# Altium schematic symbol library Switch_Schlib.SchLib: 17 symbols
Pins are listed as number, name and electrical type; pins without a type are passive.

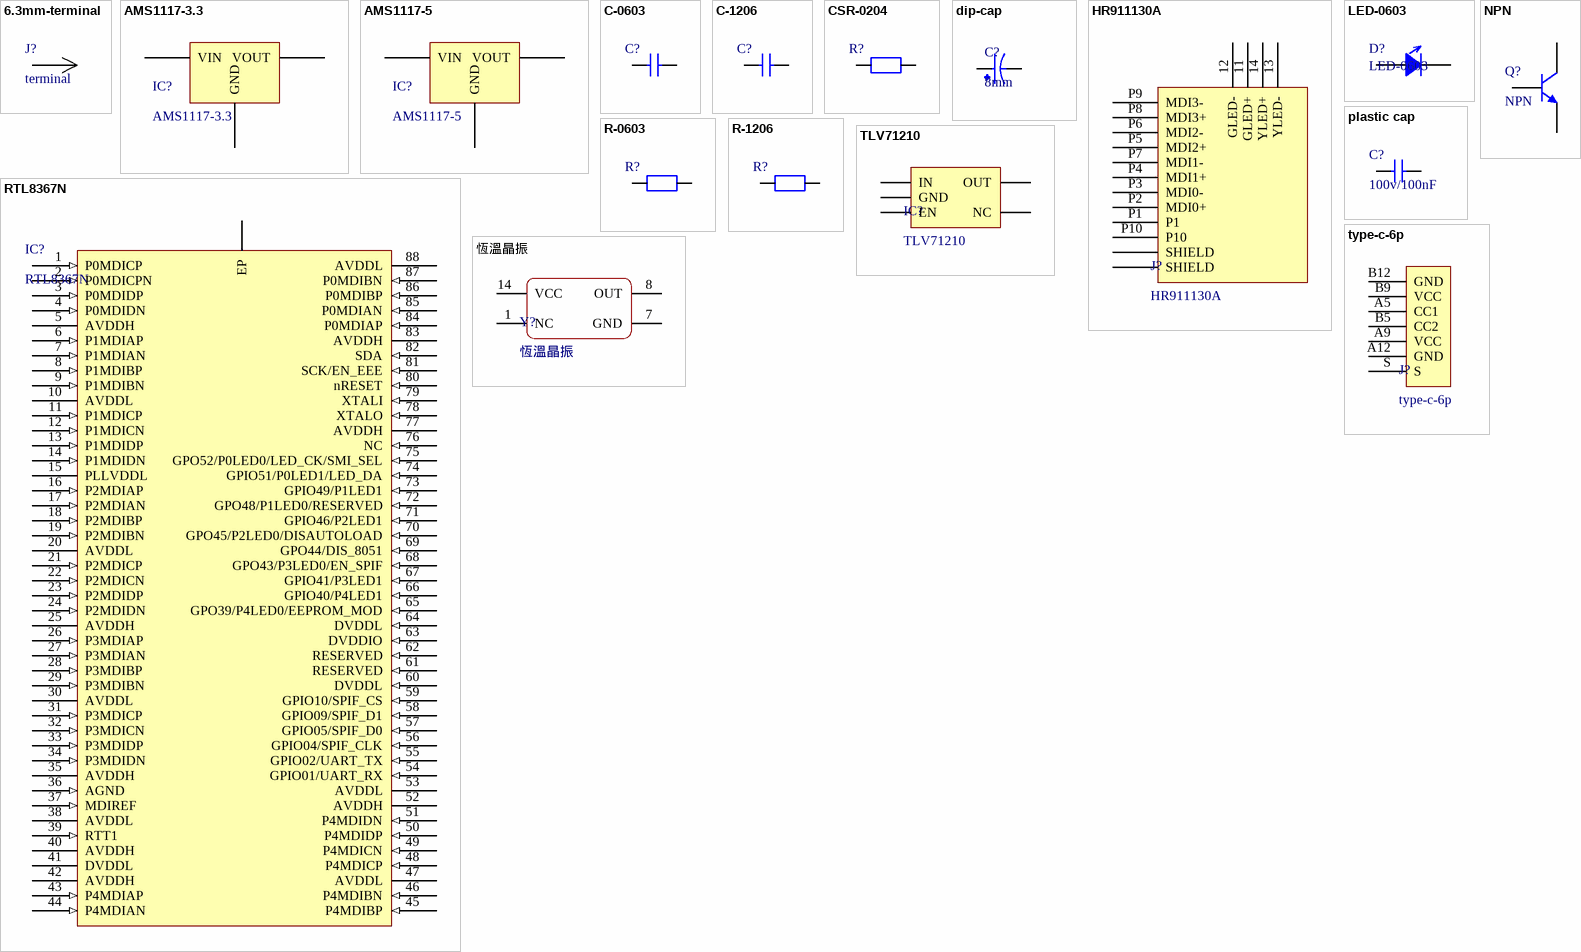
[diagram p0: symbols 6.3mm-terminal to 恆溫晶振]

## 6.3mm-terminal
designator J?, comment terminal
6.3mm-terminal
footprint Terminal-6.3mm
pins: 1

## AMS1117-3.3
designator IC?
footprint SOT-223 (SOT223, 4-Leads, Body 6.50x7.00mm (avg), Pitch 2.30mm, IPC High Density)
pins: 1 GND, 2 VOUT, 3 VIN

## AMS1117-5
designator IC?
footprint SOT-223 (SOT223, 4-Leads, Body 6.50x7.00mm (avg), Pitch 2.30mm, IPC High Density)
pins: 1 GND, 2 VOUT, 3 VIN

## C-0603
designator C?
C-0603
footprint C-0603 (Chip Capacitor, Body 1.6x0.8mm, IPC High Density)
pins: 1, 2

## C-1206
designator C?
C-1206
footprint C-1206 (Chip Capacitor, Body 3.2x1.6mm, IPC High Density)
pins: 1, 2

## CSR-0204
designator R?
CSR-0204
footprint RESMELF3515L (MELF Resistor, 2-Leads, Body 3.50x1.45mm, IPC High Density)
pins: 1, 2

## dip-cap
designator C?, comment 8mm
8mm cap
footprint CAP_dual
pins: 1, 2

## HR911130A
designator J?
footprint RJ45
pins: 11 GLED+, 12 GLED-, 13 YLED-, 14 YLED+, P1, P2 MDI0+, P3 MDI0-, P4 MDI1+, P5 MDI2+, P6 MDI2-, P7 MDI1-, P8 MDI3+, P9 MDI3-, P10, SHIELD0 SHIELD, SHIELD1 SHIELD

## LED-0603
designator D?
footprint LED-0603 (LED, Body 1.6x0.8mm, IPC High Density)
pins: 1, 2

## NPN
designator Q?
footprint SOT23-L
pins: 1 B, 2 E, 3 C

## plastic cap
designator C?, comment 100v/100nF
plastic capacitor
footprint 100v0.1u
pins: 1, 2

## R-0603
designator R?
R-0603
footprint R-0603 (Chip Resistor, Body 1.6x0.8mm, IPC High Density)
pins: 1, 2

## R-1206
designator R?
R-0603
footprint C-1206 (Chip Capacitor, Body 3.2x1.6mm, IPC High Density)
pins: 1, 2

## RTL8367N
designator IC?
RTL8367N-VB-CG
footprint QFN40P1000X1000X90_HS-89M (QFN, 88-Leads, Body 10.00x10.00mm, Pitch 0.40mm, Thermal Pad 6.90x6.90mm, IPC Low Density)
pins: 1 P0MDICP (in), 2 P0MDICPN (in), 3 P0MDIDP (in), 4 P0MDIDN (in), 5 AVDDH (power), 6 P1MDIAP (in), 7 P1MDIAN (in), 8 P1MDIBP (in), 9 P1MDIBN (in), 10 AVDDL (power), 11 P1MDICP (in), 12 P1MDICN (in), 13 P1MDIDP (in), 14 P1MDIDN (in), 15 PLLVDDL (power), 16 P2MDIAP (in), 17 P2MDIAN (in), 18 P2MDIBP (in), 19 P2MDIBN (in), 20 AVDDL (power), 21 P2MDICP (in), 22 P2MDICN (in), 23 P2MDIDP (in), 24 P2MDIDN (in), 25 AVDDH (power), 26 P3MDIAP (in), 27 P3MDIAN (in), 28 P3MDIBP (in), 29 P3MDIBN (in), 30 AVDDL (power), 31 P3MDICP (in), 32 P3MDICN (in), 33 P3MDIDP (in), 34 P3MDIDN (in), 35 AVDDH (power), 36 AGND (in), 37 MDIREF (in), 38 AVDDL (power), 39 RTT1 (in), 40 AVDDH (power), 41 DVDDL (power), 42 AVDDH (power), 43 P4MDIAP (in), 44 P4MDIAN (in), 45 P4MDIBP (in), 46 P4MDIBN (in), 47 AVDDL (power), 48 P4MDICP (in), 49 P4MDICN (in), 50 P4MDIDP (in), 51 P4MDIDN (in), 52 AVDDH (power), 53 AVDDL (power), 54 GPIO01/UART_RX (in), 55 GPIO02/UART_TX (in), 56 GPIO04/SPIF_CLK (in), 57 GPIO05/SPIF_D0 (in), 58 GPIO09/SPIF_D1 (in), 59 GPIO10/SPIF_CS (in), 60 DVDDL (in), 61 RESERVED (in), 62 RESERVED (in), 63 DVDDIO (in), 64 DVDDL (in), 65 GPO39/P4LED0/EEPROM_MOD (in), 66 GPIO40/P4LED1 (in), 67 GPIO41/P3LED1 (in), 68 GPO43/P3LED0/EN_SPIF (in), 69 GPO44/DIS_8051 (in), 70 GPO45/P2LED0/DISAUTOLOAD (in), 71 GPIO46/P2LED1 (in), 72 GPO48/P1LED0/RESERVED (in), 73 GPIO49/P1LED1 (in), 74 GPIO51/P0LED1/LED_DA (in), 75 GPO52/P0LED0/LED_CK/SMI_SEL (in), 76 NC (in), 77 AVDDH (power), 78 XTALO (in), 79 XTALI (in), 80 nRESET (in), 81 SCK/EN_EEE (in), 82 SDA (in), 83 AVDDH (power), 84 P0MDIAP (in), 85 P0MDIAN (in), 86 P0MDIBP (in), 87 P0MDIBN (in), 88 AVDDL (power), 89 EP

## TLV71210
designator IC?
1V LDO TLV71210DBVR / AP7335-10WG-7
footprint SOT95P245X110-5L (SOT23, 5-Leads, Body 2.90x2.45mm, Pitch 0.95mm, IPC High Density)
pins: 1 IN, 2 GND, 3 EN, 4 NC, 5 OUT

## type-c-6p
designator J?
C668623
footprint type-c_6p
pins: A5 CC1, A9 VCC, A12 GND, B5 CC2, B9 VCC, B12 GND, S

## 恆溫晶振
designator Y?
footprint 恆溫晶振
pins: 1 NC, 7 GND, 8 OUT, 14 VCC